# Altium footprint library thomas_ds3231.PcbLib: 4 footprints
Each footprint in its own frame and in the unit in brackets; x right, y up, seen from the top. Pads: shape width x height; smd on the part's side, far side on the other; paste and mask are expansions set on the pad; w line width, h text height; cw(c..) or ccw(c..) is an arc to the next point about the centre after c.
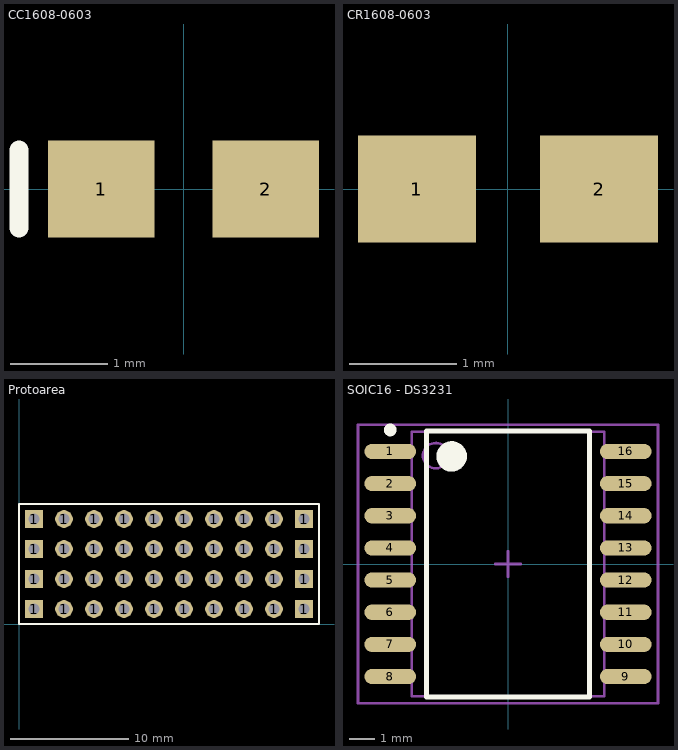
[diagram p0: the footprints below, top view; thin cyan lines are the x and y axes]

## CC1608-0603 [mm] "Chip Capacitor; Body 1.6 x 0.8 mm (LxW typ)"
height 0.85
pads (2):
  rect 1.1x1 smd: 1(-0.85,0) 2(0.85,0)
Top Overlay:
  lines w0.2: -1.7,-0.4 -1.7,0.4

## CR1608-0603 [mm] "Chip Resistor; Body 1.6 x 0.8 mm (LxW typ)"
height 0.6
pads (2):
  rect 1.1x1 smd: 1(-0.85,0) 2(0.85,0)

## Protoarea [mm]
pads (40):
  rect 1.5x1.5 hole 0.914 mask+0: 1(1.27,1.27) 1(1.27,3.81) 1(1.27,6.35) 1(1.27,8.89) 1(24.13,1.27) 1(24.13,3.81) 1(24.13,6.35) 1(24.13,8.89)
  round 1.5 hole 0.914 mask+0: 1(3.81,1.27) 1(3.81,3.81) 1(3.81,6.35) 1(3.81,8.89) 1(6.35,1.27) 1(6.35,3.81) 1(6.35,6.35) 1(6.35,8.89) 1(8.89,1.27) 1(8.89,3.81) 1(8.89,6.35) 1(8.89,8.89) 1(11.43,1.27) 1(11.43,3.81) 1(11.43,6.35) 1(11.43,8.89) 1(13.97,1.27) 1(13.97,3.81) 1(13.97,6.35) 1(13.97,8.89) 1(16.51,1.27) 1(16.51,3.81) 1(16.51,6.35) 1(16.51,8.89) 1(19.05,1.27) 1(19.05,3.81) 1(19.05,6.35) 1(19.05,8.89) 1(21.59,1.27) 1(21.59,3.81) 1(21.59,6.35) 1(21.59,8.89)
Top Overlay:
  lines w0.2: 0,0 0,10.16 25.4,10.16 25.4,0 0,0

## SOIC16 - DS3231 [mm] "SOIC, 16-Leads, Body 10.5x7.6mm (max), Pitch 1.27mm, IPC Medium Density"
height 2.67
pads (16):
  oval 2.05x0.6 smd: 1(-4.65,4.445) 2(-4.65,3.175) 3(-4.65,1.905) 4(-4.65,0.635) 5(-4.65,-0.635) 6(-4.65,-1.905) 7(-4.65,-3.175) 8(-4.65,-4.445) 9(4.65,-4.445) 10(4.65,-3.175) 11(4.65,-1.905) 12(4.65,-0.635) 13(4.65,0.635) 14(4.65,1.905) 15(4.65,3.175) 16(4.65,4.445)
Top Overlay:
  circle w0.25: c-4.65,5.295 r0.125
  circle w0.6: c-2.225,4.25 r0.3
  lines w0.2: -3.225,-5.25 -3.225,5.25 3.225,5.25 3.225,-5.25 -3.225,-5.25
Mechanical 13:
  circle w0.1: c-2.86,4.28 r0.5
  lines w0.1: -3.81,-5.23 -3.81,5.23 3.81,5.23 3.81,-5.23 -3.81,-5.23
Mechanical 15:
  lines w0.1: -0.5,0 0.5,0 ; 0,-0.5 0,0.5 ; -5.925,-5.5 -5.925,5.5 5.925,5.5 5.925,-5.5 -5.925,-5.5
3D body: height 2.67, standoff 0.1, extent -3.81,-5.23 3.81,5.23